# Altium schematic symbol library SCH - POWER - SWITCHMODE - TI TPS630250RNC.SchLib: 1 symbol
Pins are listed as number, name and electrical type; pins without a type are passive.

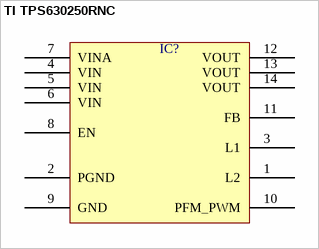
[diagram p0: symbol TI TPS630250RNC]

## TI TPS630250RNC
designator IC?  (value not drawn)
pins: 1 L2, 2 PGND, 3 L1, 4 VIN, 5 VIN, 6 VIN, 7 VINA, 8 EN, 9 GND, 10 PFM_PWM, 11 FB, 12 VOUT, 13 VOUT, 14 VOUT